# Altium schematic symbol library DC_POWER_JACK.SchLib: 1 symbol
Pins are listed as number, name and electrical type; pins without a type are passive.

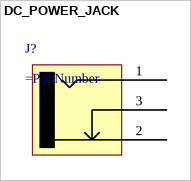
[diagram p0: symbol DC_POWER_JACK]

## DC_POWER_JACK
designator J?
pins: 1, 2, 3